# Altium footprint library 4 Sided Board Layer Stack.PcbLib: 1 footprints
Each footprint in its own frame and in the unit in brackets; x right, y up, seen from the top. Pads: shape width x height; smd on the part's side, far side on the other; paste and mask are expansions set on the pad; w line width, h text height; cw(c..) or ccw(c..) is an arc to the next point about the centre after c.
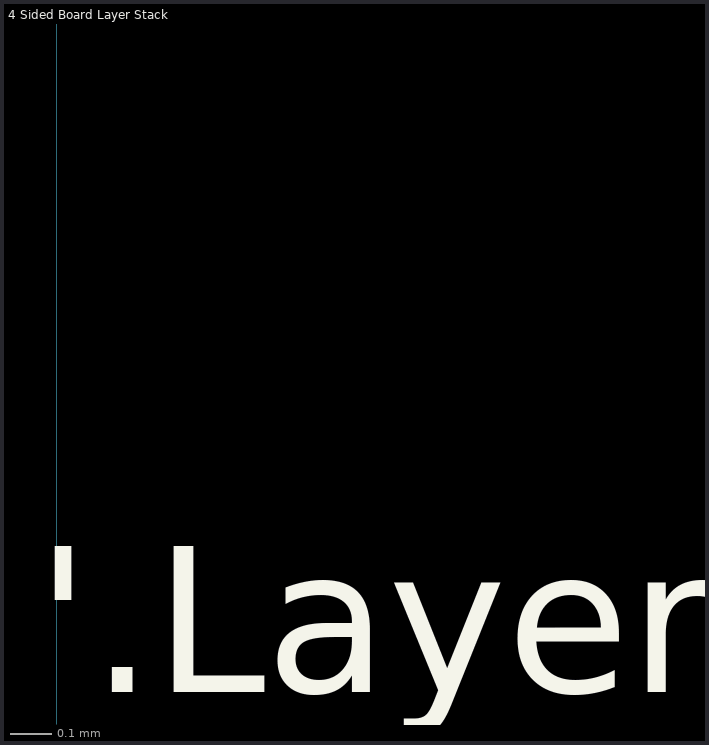
[diagram p0: the footprint, top view; thin cyan lines are the x and y axes]

## 4 Sided Board Layer Stack [mm] "Premade 4 Layers Stackup"
Top Layer:
  text "'.Layer_Name'" at 0,5.08 h1.52
Mid-Layer 1:
  text "'.Layer_Name'" at 0,2.54 h1.52
Mid-Layer 2:
  text "'.Layer_Name'" at 0,0 h1.52
Bottom Layer:
  text "'.Layer_Name'" at 0,-2.54 h1.52
Top Overlay:
  text "'.Layer_Name'" at -0.05,-10.16 h1.52
Bottom Overlay:
  text "'.Layer_Name'" at 0,-12.7 h1.52
Top Paste:
  text "'.Layer_Name'" at -0.05,-17.78 h1.52
Bottom Paste:
  text "'.Layer_Name'" at -0.05,-20.32 h1.52
Drill Guide:
  text "'.Layer_Name'" at 0,-22.86 h1.52
Mechanical 1:
  text "Mechanical 1 is board outline" at 0,-15.24 h1.52
  text "'.Layer_Name'" at 0,-5.08 h1.52
Mechanical 15:
  text "'.Layer_Name'" at 0,-7.62 h1.52
Multi-Layer:
  text "'.Layer_Name'" at 0,-25.4 h1.52